# EAGLE library part CS2100-CP_CS2100-CP-CZZ (library xmos_avb_brd_V4)
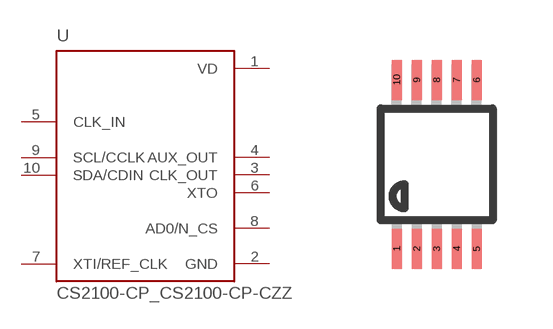
[diagram p4: symbol with the pads of CS2100-CP_CIRRUS-LOGIC_MSOP10; footprint CS2100-CP_CIRRUS-LOGIC_MSOP10]

Designator prefix U

## CS2100-CP_CS2100-CP-CZZ  [CS2100-CP_CIRRUS-LOGIC_MSOP10]
1  VD
2  GND
3  CLK_OUT
4  AUX_OUT
5  CLK_IN
6  XTO
7  XTI/REF_CLK
8  AD0/N_CS
9  SCL/CCLK
10  SDA/CDIN

## Footprint CS2100-CP_CIRRUS-LOGIC_MSOP10 (pad centres in mm)
10-Lead Mini Small Outline Package [MSOP] (RM-10) Source: http://www.analog.com/UploadedFiles/Data_Sheets/35641221898805SSM2167_b.pdf COMPLIANT TO JEDEC STANDARDS MO-187BA
smd 0.25 x 1: 1 -1,-2.113; 2 -0.5,-2.113; 3 0,-2.113; 4 0.5,-2.113; 5 1,-2.113; 6 1,2.113; 7 0.5,2.113; 8 0,2.113; 9 -0.5,2.113; 10 -1,2.113